# Altium footprint library BLE.PcbLib: 22 footprints (part 2 of 2)
Each footprint in its own frame and in the unit in brackets; x right, y up, seen from the top. Pads: shape width x height; smd on the part's side, far side on the other; paste and mask are expansions set on the pad; w line width, h text height; cw(c..) or ccw(c..) is an arc to the next point about the centre after c.
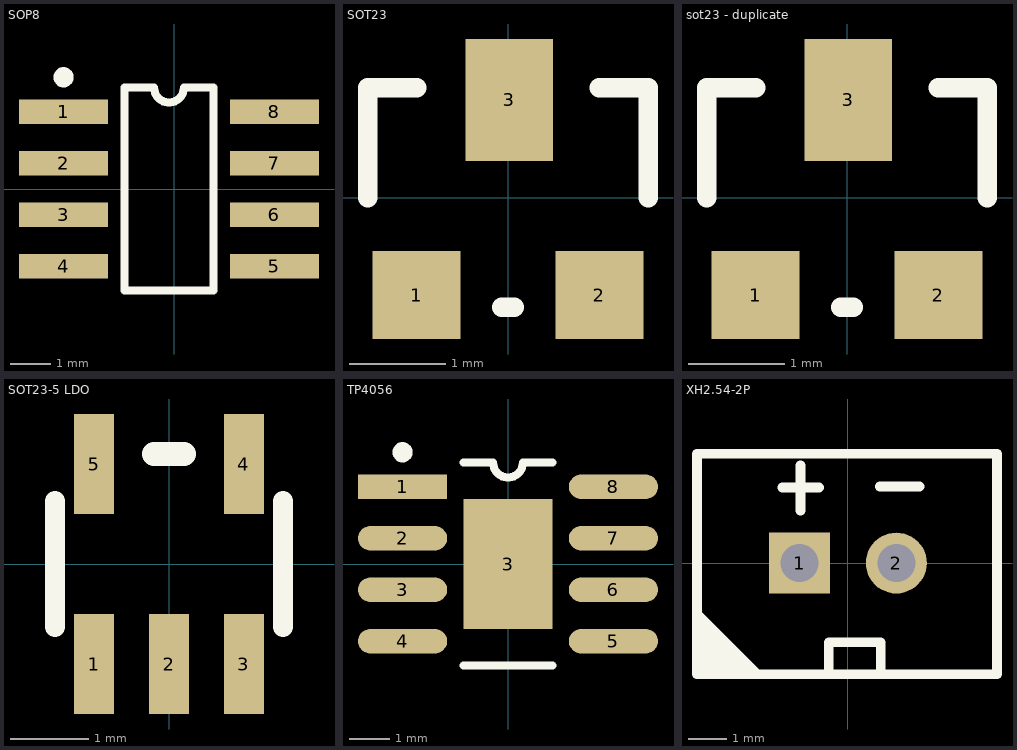
[diagram p1: the footprints below, top view; thin cyan lines are the x and y axes]

## SOP8 [mm]
pads (8):
  rect 2.2x0.6 smd: 1(-2.727,1.905) 2(-2.727,0.635) 3(-2.727,-0.635) 4(-2.727,-1.905) 5(2.473,-1.905) 6(2.473,-0.635) 7(2.473,0.635) 8(2.473,1.905)
Top Overlay:
  circle w0.25: c-2.727,2.755 r0.125
  lines w0.2: -1.227,-2.5 0.973,-2.5 0.973,2.5 0.24,2.5 cw(c-0.127,2.5) -0.494,2.5 -1.227,2.5 -1.227,-2.5
3D body "SO-8.STEP": height 1.7, standoff 0, extent -3.001,-2.451 2.999,2.45

## SOT23 [mil]
pads (3):
  rect 36x36 smd: 1(-37.5,-40) 2(37.5,-40)
  rect 36x50 smd: 3(0.5,40)
Top Overlay:
  lines w8: -57.5,0 -57.5,45 -37.5,45 ; -2.5,-45 2.5,-45 ; 37.5,45 57.5,45 57.5,0
3D body "SW3DPS-SOT-23-DEFAULT1.step": height 41.65, standoff -1.65, extent -59.05,-49.21 59.06,49.22

## sot23 - duplicate [mil]
pads (3):
  rect 36x36 smd: 1(-37.5,-40) 2(37.5,-40)
  rect 36x50 smd: 3(0.5,40)
Top Overlay:
  lines w8: -57.5,0 -57.5,45 -37.5,45 ; -2.5,-45 2.5,-45 ; 37.5,45 57.5,45 57.5,0
3D body "SW3DPS-SOT-23-DEFAULT1.step": height 41.65, standoff -1.65, extent -59.05,-49.21 59.06,49.22

## SOT23-5 LDO [mil]
height 866.14
pads (5):
  rect 20x50 smd: 1(-37.4,-50) 2(0,-50) 3(37.4,-50) 4(37.4,50) 5(-37.4,50)
Top Overlay:
  lines w10: -57.09,-31.5 -57.09,31.5 ; 57.09,-31.5 57.09,31.5
  lines w12: -7.4,55 7.6,55
3D body "User Library-SOT23-5-2.STEP": height 57.09, standoff 0, extent -57.08,-55.11 57.09,55.12

## TP4056 [mm]
height 2.65
pads (9):
  rect 2.2x0.6 smd: 1(-2.6,1.905)
  oval 2.2x0.6 smd: 2(-2.6,0.635) 3(-2.6,-0.635) 4(-2.6,-1.905) 5(2.6,-1.905) 6(2.6,-0.635) 7(2.6,0.635) 8(2.6,1.905)
  rect 2.2x3.2 smd: 3(0,0)
Top Overlay:
  circle w0.25: c-2.6,2.755 r0.125
  lines w0.2: -1.1,-2.5 1.1,-2.5 ; -1.1,2.5 -0.367,2.5 ccw(c0,2.5) 0.367,2.5 1.1,2.5
3D body "SO-8.STEP": height 1.7, standoff 0, extent -3,-2.45 3,2.45

## XH2.54-2P [mm]
pads (2):
  rect 1.6x1.6 hole 1: 1(-1.27,0)
  round 1.6 hole 1: 2(1.27,0)
Top Overlay:
  lines w0.254: -3.929,-2.599 -3.701,-2.827 -3.701,-2.903 ; -3.929,-1.379 -2.405,-2.903 ; -3.904,-2.065 -3.091,-2.878 -3.015,-2.878 ; -3.904,-1.735 -2.761,-2.878 -2.735,-2.878 ; -3.878,-2.395 -3.421,-2.853 -3.37,-2.853 ; -1.727,1.981 -0.762,1.981 ; -1.245,1.372 -1.245,2.565 ; -0.508,-2.921 -0.508,-2.083 0.864,-2.083 0.864,-2.896 ; 0.838,2.007 1.88,2.007 ; -3.962,-2.921 -3.962,2.87 3.912,2.87 3.912,-2.921 -3.962,-2.921
3D body "User Library-XH2_54_2PIN.STEP": height 7, standoff -4, extent -4,-3.028 4,2.972